# Altium schematic symbol library 接口器件.SchLib: 20 symbols
Pins are listed as number, name and electrical type; pins without a type are passive.

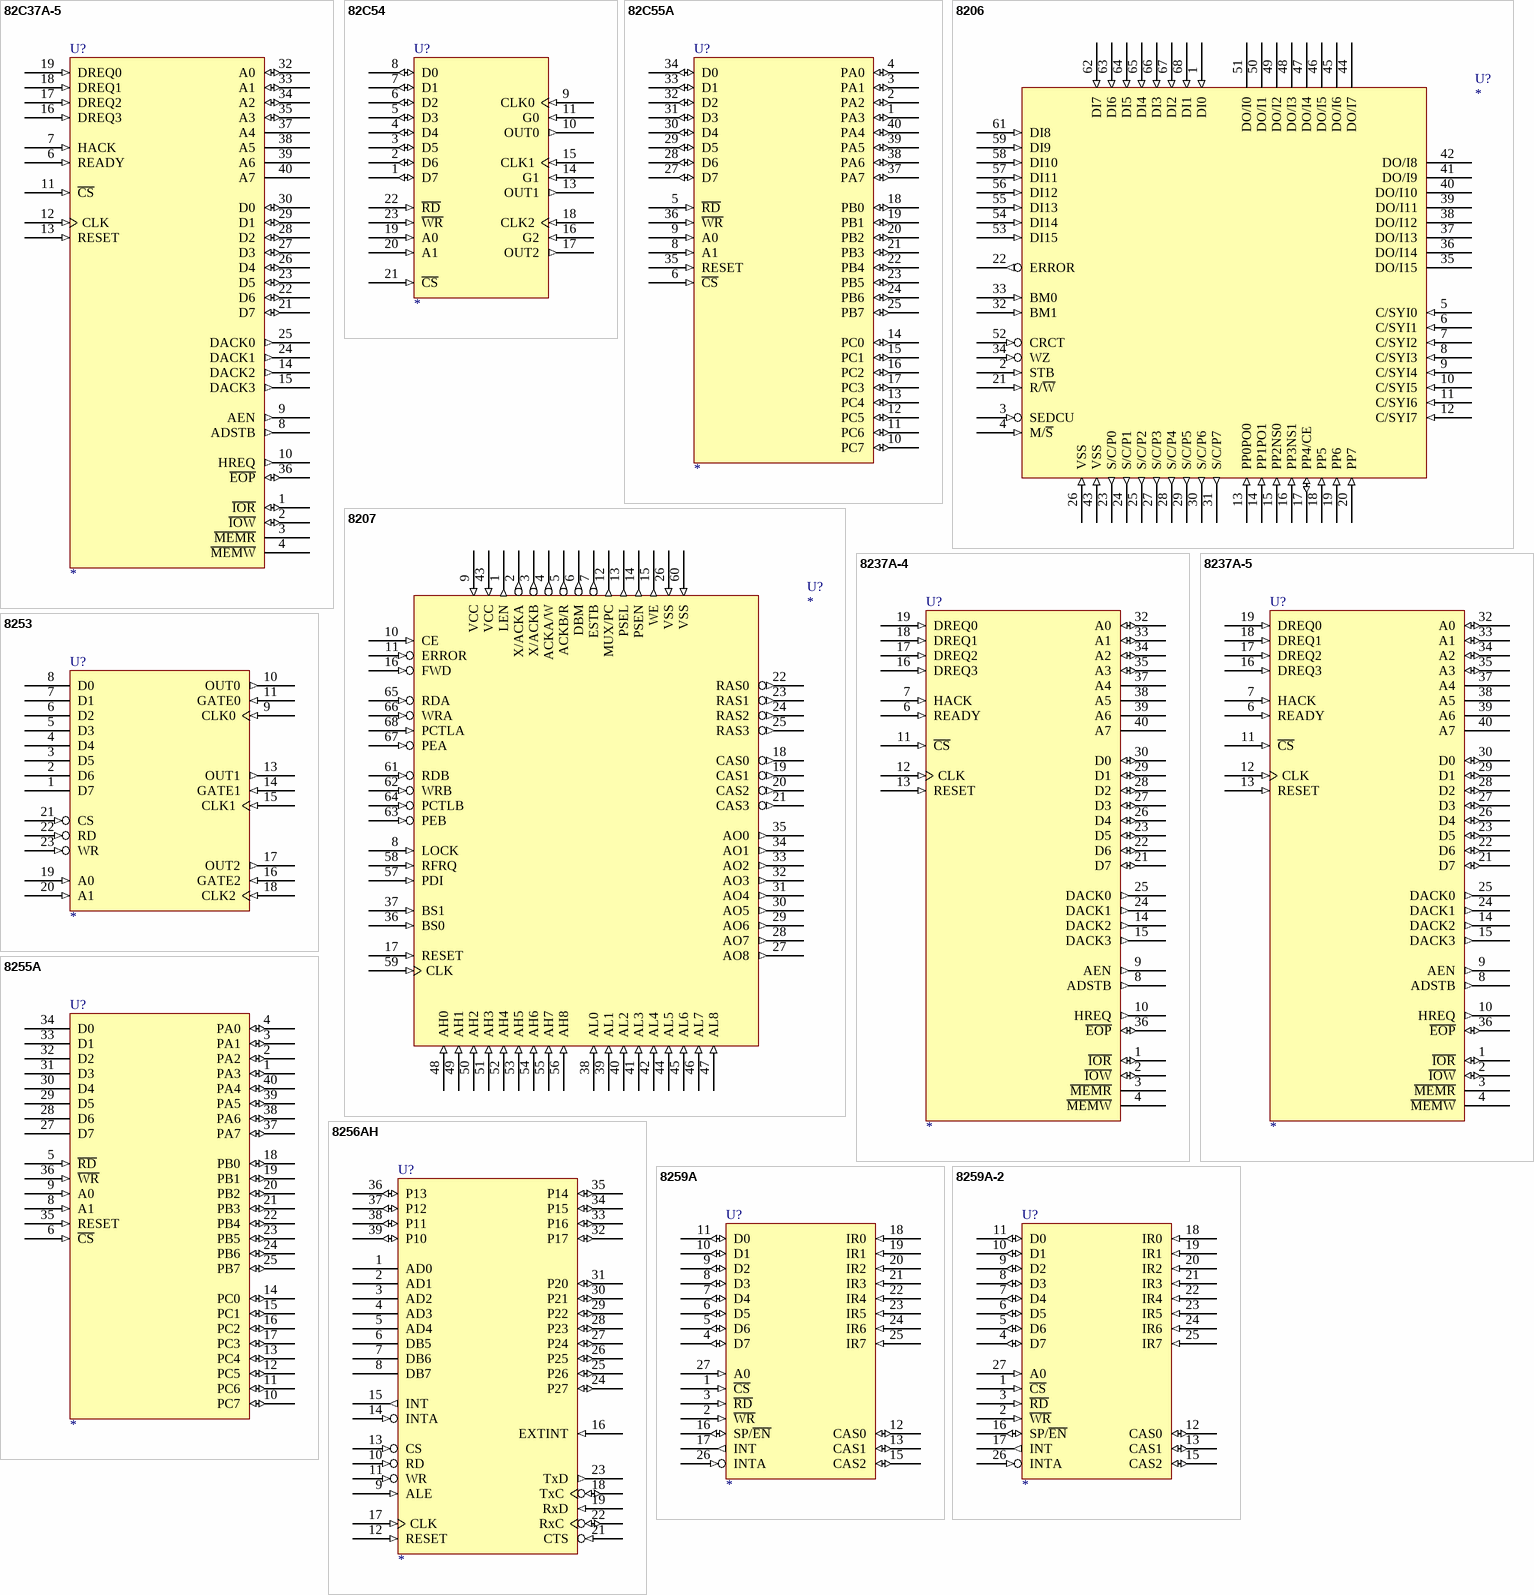
[diagram p0: symbols 82C37A-5 to 8259A-2]

## 82C37A-5
designator U?
pins: 1 ~{IOR} (io), 2 ~{IOW} (io), 3 ~{MEMR} (hiz), 4 ~{MEMW} (hiz), 5 VCC (power) hidden to VCC, 6 READY (in), 7 HACK (in), 8 ADSTB (out), 9 AEN (out), 10 HREQ (out), 11 ~{CS} (in), 12 CLK (in), 13 RESET (in), 14 DACK2 (out), 15 DACK3 (out), 16 DREQ3 (in), 17 DREQ2 (in), 18 DREQ1 (in), 19 DREQ0 (in), 20 VSS (power) hidden to VSS, 21 D7 (io), 22 D6 (io), 23 D5 (io), 24 DACK1 (out), 25 DACK0 (out), 26 D4 (io), 27 D3 (io), 28 D2 (io), 29 D1 (io), 30 D0 (io), 31 VCC (power) hidden to VCC, 32 A0 (io), 33 A1 (io), 34 A2 (io), 35 A3 (io), 36 ~{EOP} (io), 37 A4 (hiz), 38 A5 (hiz), 39 A6 (hiz), 40 A7 (hiz)

## 82C54
designator U?
pins: 1 D7 (io), 2 D6 (io), 3 D5 (io), 4 D4 (io), 5 D3 (io), 6 D2 (io), 7 D1 (io), 8 D0 (io), 9 CLK0 (in), 10 OUT0 (out), 11 G0 (in), 12 GND (power) hidden to GND, 13 OUT1 (out), 14 G1 (in), 15 CLK1 (in), 16 G2 (in), 17 OUT2 (out), 18 CLK2 (in), 19 A0 (in), 20 A1 (in), 21 ~{CS} (in), 22 ~{RD} (in), 23 ~{WR} (in), 24 VCC (power) hidden to VCC

## 82C55A
designator U?
pins: 1 PA3 (io), 2 PA2 (io), 3 PA1 (io), 4 PA0 (io), 5 ~{RD} (in), 6 ~{CS} (in), 7 GND (power) hidden to GND, 8 A1 (in), 9 A0 (in), 10 PC7 (io), 11 PC6 (io), 12 PC5 (io), 13 PC4 (io), 14 PC0 (io), 15 PC1 (io), 16 PC2 (io), 17 PC3 (io), 18 PB0 (io), 19 PB1 (io), 20 PB2 (io), 21 PB3 (io), 22 PB4 (io), 23 PB5 (io), 24 PB6 (io), 25 PB7 (io), 26 VCC (power) hidden to VCC, 27 D7 (io), 28 D6 (io), 29 D5 (io), 30 D4 (io), 31 D3 (io), 32 D2 (io), 33 D1 (io), 34 D0 (io), 35 RESET (in), 36 ~{WR} (in), 37 PA7 (io), 38 PA6 (io), 39 PA5 (io), 40 PA4 (io)

## 8206
designator U?
footprint JEDECA-68
pins: 1 DI0 (in), 2 STB (in), 3 SEDCU (in), 4 M/~{S} (in), 5 C/SYI0 (in), 6 C/SYI1 (in), 7 C/SYI2 (in), 8 C/SYI3 (in), 9 C/SYI4 (in), 10 C/SYI5 (in), 11 C/SYI6 (in), 12 C/SYI7 (in), 13 PP0PO0 (in), 14 PP1PO1 (in), 15 PP2NS0 (in), 16 PP3NS1 (in), 17 PP4/CE (io), 18 PP5 (in), 19 PP6 (in), 20 PP7 (in), 21 R/~{W} (in), 22 ERROR (out), 23 S/C/P0 (out), 24 S/C/P1 (out), 25 S/C/P2 (out), 26 VSS (in), 27 S/C/P3 (out), 28 S/C/P4 (out), 29 S/C/P5 (out), 30 S/C/P6 (out), 31 S/C/P7 (out), 32 BM1 (in), 33 BM0 (in), 34 WZ (in), 35 DO/I15 (hiz), 36 DO/I14 (hiz), 37 DO/I13 (hiz), 38 DO/I12 (hiz), 39 DO/I11 (hiz), 40 DO/I10 (hiz), 41 DO/I9 (hiz), 42 DO/I8 (hiz), 43 VSS (in), 44 DO/I7 (hiz), 45 DO/I6 (hiz), 46 DO/I5 (hiz), 47 DO/I4 (hiz), 48 DO/I3 (hiz), 49 DO/I2 (hiz), 50 DO/I1 (hiz), 51 DO/I0 (hiz), 52 CRCT (in), 53 DI15 (in), 54 DI14 (in), 55 DI13 (in), 56 DI12 (in), 57 DI11 (in), 58 DI10 (in), 59 DI9 (in), 60 VCC (power) hidden to VCC, 61 DI8 (in), 62 DI7 (in), 63 DI6 (in), 64 DI5 (in), 65 DI4 (in), 66 DI3 (in), 67 DI2 (in), 68 DI1 (in)

## 8207
designator U?
footprint JEDECA-68
pins: 1 LEN (out), 2 X/ACKA (out), 3 X/ACKB (out), 4 ACKA/W (out), 5 ACKB/R (out), 6 DBM (out), 7 ESTB (out), 8 LOCK (in), 9 VCC (in), 10 CE (in), 11 ERROR (in), 12 MUX/PC (out), 13 PSEL (out), 14 PSEN (out), 15 WE (out), 16 FWD (in), 17 RESET (in), 18 CAS0 (out), 19 CAS1 (out), 20 CAS2 (out), 21 CAS3 (out), 22 RAS0 (out), 23 RAS1 (out), 24 RAS2 (out), 25 RAS3 (out), 26 VSS (in), 27 AO8 (out), 28 AO7 (out), 29 AO6 (out), 30 AO5 (out), 31 AO4 (out), 32 AO3 (out), 33 AO2 (out), 34 AO1 (out), 35 AO0 (out), 36 BS0 (in), 37 BS1 (in), 38 AL0 (in), 39 AL1 (in), 40 AL2 (in), 41 AL3 (in), 42 AL4 (in), 43 VCC (in), 44 AL5 (in), 45 AL6 (in), 46 AL7 (in), 47 AL8 (in), 48 AH0 (in), 49 AH1 (in), 50 AH2 (in), 51 AH3 (in), 52 AH4 (in), 53 AH5 (in), 54 AH6 (in), 55 AH7 (in), 56 AH8 (in), 57 PDI (in), 58 RFRQ (in), 59 CLK (in), 60 VSS (in), 61 RDB (in), 62 WRB (in), 63 PEB (in), 64 PCTLB (in), 65 RDA (in), 66 WRA (in), 67 PEA (in), 68 PCTLA (in)

## 8237A-4
designator U?
pins: 1 ~{IOR} (io), 2 ~{IOW} (io), 3 ~{MEMR} (hiz), 4 ~{MEMW} (hiz), 5 VCC (power) hidden to VCC, 6 READY (in), 7 HACK (in), 8 ADSTB (out), 9 AEN (out), 10 HREQ (out), 11 ~{CS} (in), 12 CLK (in), 13 RESET (in), 14 DACK2 (out), 15 DACK3 (out), 16 DREQ3 (in), 17 DREQ2 (in), 18 DREQ1 (in), 19 DREQ0 (in), 20 VSS (power) hidden to VSS, 21 D7 (io), 22 D6 (io), 23 D5 (io), 24 DACK1 (out), 25 DACK0 (out), 26 D4 (io), 27 D3 (io), 28 D2 (io), 29 D1 (io), 30 D0 (io), 31 VCC (power) hidden to VCC, 32 A0 (io), 33 A1 (io), 34 A2 (io), 35 A3 (io), 36 ~{EOP} (io), 37 A4 (hiz), 38 A5 (hiz), 39 A6 (hiz), 40 A7 (hiz)

## 8237A-5
designator U?
pins: 1 ~{IOR} (io), 2 ~{IOW} (io), 3 ~{MEMR} (hiz), 4 ~{MEMW} (hiz), 5 VCC (power) hidden to VCC, 6 READY (in), 7 HACK (in), 8 ADSTB (out), 9 AEN (out), 10 HREQ (out), 11 ~{CS} (in), 12 CLK (in), 13 RESET (in), 14 DACK2 (out), 15 DACK3 (out), 16 DREQ3 (in), 17 DREQ2 (in), 18 DREQ1 (in), 19 DREQ0 (in), 20 VSS (power) hidden to VSS, 21 D7 (io), 22 D6 (io), 23 D5 (io), 24 DACK1 (out), 25 DACK0 (out), 26 D4 (io), 27 D3 (io), 28 D2 (io), 29 D1 (io), 30 D0 (io), 31 VCC (power) hidden to VCC, 32 A0 (io), 33 A1 (io), 34 A2 (io), 35 A3 (io), 36 ~{EOP} (io), 37 A4 (hiz), 38 A5 (hiz), 39 A6 (hiz), 40 A7 (hiz)

## 8253
designator U?
footprint DIP-24
pins: 1 D7 (hiz), 2 D6 (hiz), 3 D5 (hiz), 4 D4 (hiz), 5 D3 (hiz), 6 D2 (hiz), 7 D1 (hiz), 8 D0 (hiz), 9 CLK0 (in), 10 OUT0 (out), 11 GATE0 (in), 12 GND (power) hidden to GND, 13 OUT1 (out), 14 GATE1 (in), 15 CLK1 (in), 16 GATE2 (in), 17 OUT2 (out), 18 CLK2 (in), 19 A0 (in), 20 A1 (in), 21 CS (in), 22 RD (in), 23 WR (in), 24 VCC (power) hidden to VCC

## 8255A
designator U?
footprint DIP-40
pins: 1 PA3 (io), 2 PA2 (io), 3 PA1 (io), 4 PA0 (io), 5 ~{RD} (in), 6 ~{CS} (in), 7 GND (power) hidden to GND, 8 A1 (in), 9 A0 (in), 10 PC7 (io), 11 PC6 (io), 12 PC5 (io), 13 PC4 (io), 14 PC0 (io), 15 PC1 (io), 16 PC2 (io), 17 PC3 (io), 18 PB0 (io), 19 PB1 (io), 20 PB2 (io), 21 PB3 (io), 22 PB4 (io), 23 PB5 (io), 24 PB6 (io), 25 PB7 (io), 26 VCC (power) hidden to VCC, 27 D7 (hiz), 28 D6 (hiz), 29 D5 (hiz), 30 D4 (hiz), 31 D3 (hiz), 32 D2 (hiz), 33 D1 (hiz), 34 D0 (hiz), 35 RESET (in), 36 ~{WR} (in), 37 PA7 (io), 38 PA6 (io), 39 PA5 (io), 40 PA4 (io)

## 8256AH
designator U?
footprint DIP-40
pins: 1 AD0 (hiz), 2 AD1 (hiz), 3 AD2 (hiz), 4 AD3 (hiz), 5 AD4 (hiz), 6 DB5 (hiz), 7 DB6 (hiz), 8 DB7 (hiz), 9 ALE (in), 10 RD (in), 11 WR (in), 12 RESET (in), 13 CS (in), 14 INTA (in), 15 INT (out), 16 EXTINT (in), 17 CLK (in), 18 TxC (io), 19 RxD (in), 20 GND (power) hidden to GND, 21 CTS (in), 22 RxC (io), 23 TxD (out), 24 P27 (io), 25 P26 (io), 26 P25 (io), 27 P24 (io), 28 P23 (io), 29 P22 (io), 30 P21 (io), 31 P20 (io), 32 P17 (io), 33 P16 (io), 34 P15 (io), 35 P14 (io), 36 P13 (io), 37 P12 (io), 38 P11 (io), 39 P10 (io), 40 VCC (power) hidden to VCC

## 8259A
designator U?
pins: 1 ~{CS} (in), 2 ~{WR} (in), 3 ~{RD} (in), 4 D7 (io), 5 D6 (io), 6 D5 (io), 7 D4 (io), 8 D3 (io), 9 D2 (io), 10 D1 (io), 11 D0 (io), 12 CAS0 (io), 13 CAS1 (io), 14 GND (power) hidden to GND, 15 CAS2 (io), 16 SP/~{EN} (io), 17 INT (out), 18 IR0 (in), 19 IR1 (in), 20 IR2 (in), 21 IR3 (in), 22 IR4 (in), 23 IR5 (in), 24 IR6 (in), 25 IR7 (in), 26 INTA (in), 27 A0 (in), 28 VCC (power) hidden to VCC

## 8259A-2
designator U?
pins: 1 ~{CS} (in), 2 ~{WR} (in), 3 ~{RD} (in), 4 D7 (io), 5 D6 (io), 6 D5 (io), 7 D4 (io), 8 D3 (io), 9 D2 (io), 10 D1 (io), 11 D0 (io), 12 CAS0 (io), 13 CAS1 (io), 14 GND (power) hidden to GND, 15 CAS2 (io), 16 SP/~{EN} (io), 17 INT (out), 18 IR0 (in), 19 IR1 (in), 20 IR2 (in), 21 IR3 (in), 22 IR4 (in), 23 IR5 (in), 24 IR6 (in), 25 IR7 (in), 26 INTA (in), 27 A0 (in), 28 VCC (power) hidden to VCC

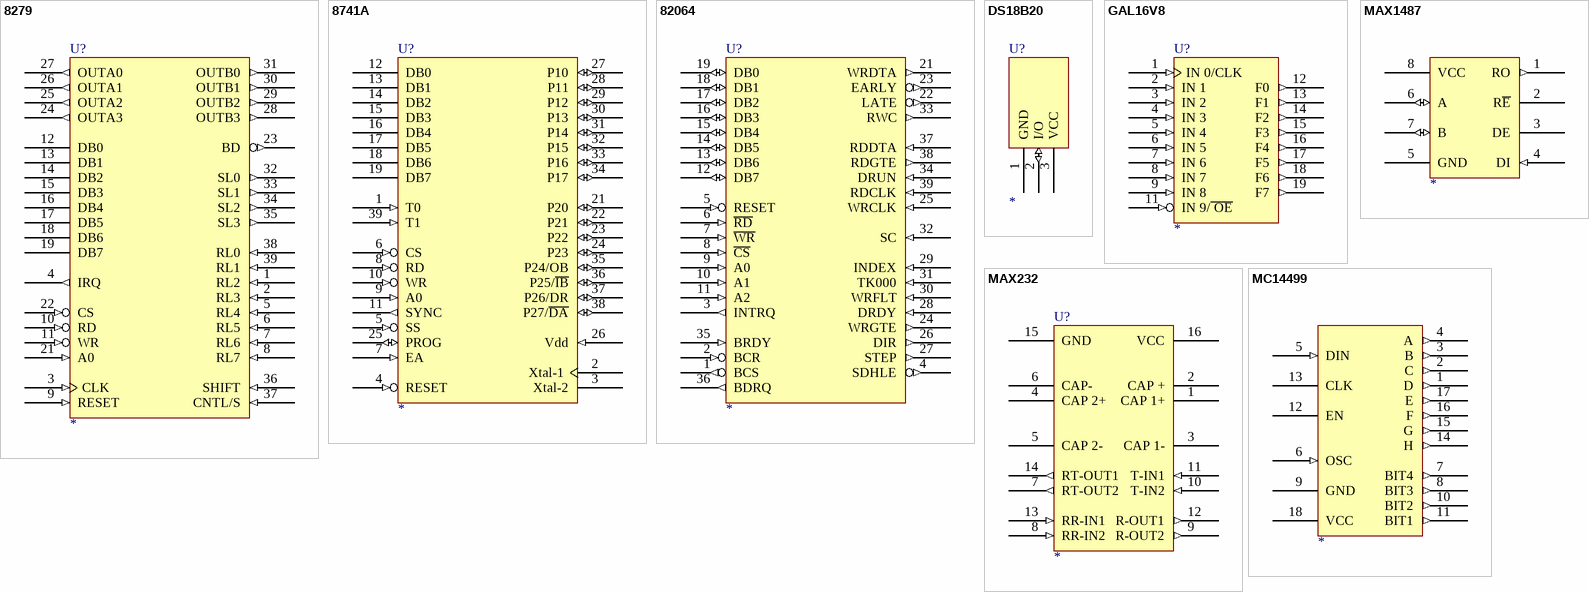
[diagram p1: symbols 8279 to MC14499]

## 8279
designator U?
footprint DIP-40
pins: 1 RL2 (in), 2 RL3 (in), 3 CLK (in), 4 IRQ (out), 5 RL4 (in), 6 RL5 (in), 7 RL6 (in), 8 RL7 (in), 9 RESET (in), 10 RD (in), 11 WR (in), 12 DB0 (hiz), 13 DB1 (hiz), 14 DB2 (hiz), 15 DB3 (hiz), 16 DB4 (hiz), 17 DB5 (hiz), 18 DB6 (hiz), 19 DB7 (hiz), 20 GND (power) hidden to GND, 21 A0 (in), 22 CS (in), 23 BD (out), 24 OUTA3 (out), 25 OUTA2 (out), 26 OUTA1 (out), 27 OUTA0 (out), 28 OUTB3 (out), 29 OUTB2 (out), 30 OUTB1 (out), 31 OUTB0 (out), 32 SL0 (out), 33 SL1 (out), 34 SL2 (out), 35 SL3 (out), 36 SHIFT (in), 37 CNTL/S (in), 38 RL0 (in), 39 RL1 (in), 40 VCC (power) hidden to VCC

## 8741A
designator U?
footprint DIP-40
pins: 1 T0 (in), 2 Xtal-1, 3 Xtal-2, 4 RESET (in), 5 SS (in), 6 CS (in), 7 EA (in), 8 RD (in), 9 A0 (in), 10 WR (in), 11 SYNC (out), 12 DB0 (hiz), 13 DB1 (hiz), 14 DB2 (hiz), 15 DB3 (hiz), 16 DB4 (hiz), 17 DB5 (hiz), 18 DB6 (hiz), 19 DB7 (hiz), 20 GND (power) hidden to GND, 21 P20 (io), 22 P21 (io), 23 P22 (io), 24 P23 (io), 25 PROG (io), 26 Vdd (in), 27 P10 (io), 28 P11 (io), 29 P12 (io), 30 P13 (io), 31 P14 (io), 32 P15 (io), 33 P16 (io), 34 P17 (io), 35 P24/OB (io), 36 P25/~{IB} (io), 37 P26/DR (io), 38 P27/~{DA} (io), 39 T1 (in), 40 VCC (power) hidden to VCC

## 82064
designator U?
pins: 1 BCS (out), 2 BCR (in), 3 INTRQ (out), 4 SDHLE (out), 5 RESET (in), 6 ~{RD} (in), 7 ~{WR} (in), 8 ~{CS} (in), 9 A0 (in), 10 A1 (in), 11 A2 (in), 12 DB7 (io), 13 DB6 (io), 14 DB5 (io), 15 DB4 (io), 16 DB3 (io), 17 DB2 (io), 18 DB1 (io), 19 DB0 (io), 20 GND (power) hidden to GND, 21 WRDTA (out), 22 LATE (out), 23 EARLY (out), 24 WRGTE (out), 25 WRCLK (in), 26 DIR (out), 27 STEP (out), 28 DRDY (in), 29 INDEX (in), 30 WRFLT (in), 31 TK000 (in), 32 SC (in), 33 RWC (out), 34 DRUN (in), 35 BRDY (in), 36 BDRQ (out), 37 RDDTA (in), 38 RDGTE (out), 39 RDCLK (in), 40 VCC (power) hidden to VCC

## DS18B20
designator U?
pins: 1 GND (power), 2 I/O (io), 3 VCC (power)

## GAL16V8
designator U?
GAL
footprint DIP20
pins: 1 IN 0/CLK (in), 2 IN 1 (in), 3 IN 2 (in), 4 IN 3 (in), 5 IN 4 (in), 6 IN 5 (in), 7 IN 6 (in), 8 IN 7 (in), 9 IN 8 (in), 11 IN 9/~{ OE} (in), 12 F0 (out), 13 F1 (out), 14 F2 (out), 15 F3 (out), 16 F4 (out), 17 F5 (out), 18 F6 (out), 19 F7 (out)

## MAX232
designator U?
pins: 1 CAP 1+, 2 CAP +, 3 CAP 1-, 4 CAP 2+, 5 CAP 2-, 6 CAP-, 7 RT-OUT2 (out), 8 RR-IN2 (in), 9 R-OUT2 (out), 10 T-IN2 (in), 11 T-IN1 (in), 12 R-OUT1 (out), 13 RR-IN1 (in), 14 RT-OUT1 (out), 15 GND (power), 16 VCC (power)

## MAX1487
designator ?
pins: 1 RO (out), 2 R~{E}, 3 DE, 4 DI (in), 5 GND (power), 6 A (io), 7 B (io), 8 VCC (power)

## MC14499
designator ?
pins: 1 D (out), 2 C (out), 3 B (out), 4 A (out), 5 DIN (in), 6 OSC (in), 7 BIT4 (out), 8 BIT3 (out), 9 GND (power), 10 BIT2 (out), 11 BIT1 (out), 12 EN, 13 CLK, 14 H (out), 15 G (out), 16 F (out), 17 E (out), 18 VCC (power)